# EAGLE library part DDR1X16 (library kmod-testing)
DDR1 x16 Based off a 512Mb part
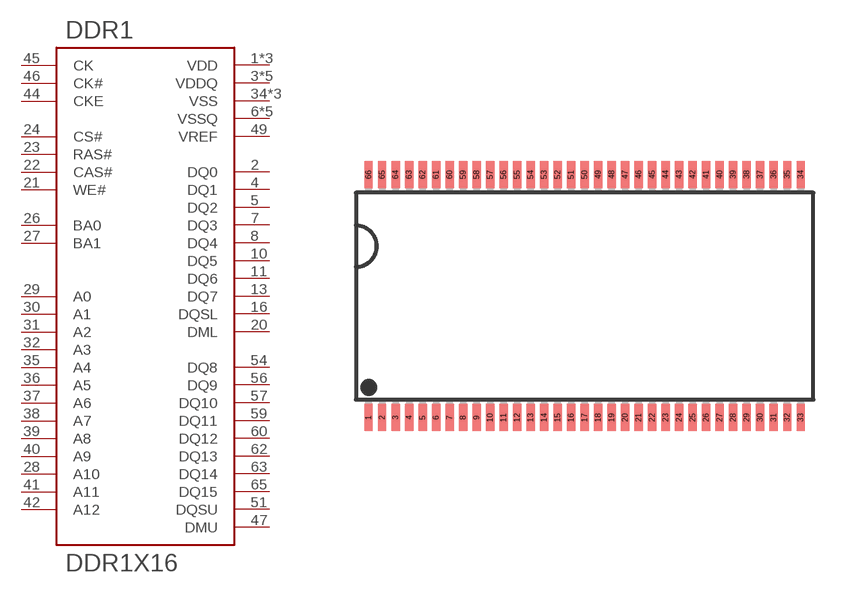
[diagram p8: symbol with the pads of TSOP66-400; footprint TSOP66-400]

Designator prefix DDR1

## DDR1X16  [TSOP66-400]
1  VDD  in
2  DQ0
3  VDDQ  in
4  DQ1
5  DQ2
6  VSSQ  in
7  DQ3
8  DQ4
9  VDDQ  in
10  DQ5
11  DQ6
12  VSSQ  in
13  DQ7
15  VDDQ  in
16  DQSL  in
18  VDD  in
20  DML  in
21  WE#  in
22  CAS#  in
23  RAS#  in
24  CS#  in
26  BA0  in
27  BA1  in
28  A10  in
29  A0  in
30  A1  in
31  A2  in
32  A3  in
33  VDD  in
34  VSS  in
35  A4  in
36  A5  in
37  A6  in
38  A7  in
39  A8  in
40  A9  in
41  A11  in
42  A12  in
44  CKE  in
45  CK  in
46  CK#  in
47  DMU  in
48  VSS  in
49  VREF  in
51  DQSU  in
52  VSSQ  in
54  DQ8
55  VDDQ  in
56  DQ9
57  DQ10
58  VSSQ  in
59  DQ11
60  DQ12
61  VDDQ  in
62  DQ13
63  DQ14
64  VSSQ  in
65  DQ15
66  VSS  in

## Footprint TSOP66-400 (pad centres in mm)
66-Pin Plastic TSOP (400 mil) From memory-micron.lbr; expanded to 66 pins and lengthened pads. Original note: Source: http://download.micron.com/pdf/datasheets/dram/sdram/256MSDRAM.pdf
smd 0.4 x 1.3: 1 -10.4,-5.85; 2 -9.75,-5.85; 3 -9.1,-5.85; 4 -8.45,-5.85; 5 -7.8,-5.85; 6 -7.15,-5.85; 7 -6.5,-5.85; 8 -5.85,-5.85; 9 -5.2,-5.85; 10 -4.55,-5.85; 11 -3.9,-5.85; 12 -3.25,-5.85; 13 -2.6,-5.85; 14 -1.95,-5.85; 15 -1.3,-5.85; 16 -0.65,-5.85; 17 0,-5.85; 18 0.65,-5.85; 19 1.3,-5.85; 20 1.95,-5.85; 21 2.6,-5.85; 22 3.25,-5.85; 23 3.9,-5.85; 24 4.55,-5.85; 25 5.2,-5.85; 26 5.85,-5.85; 27 6.5,-5.85; 28 7.15,-5.85; 29 7.8,-5.85; 30 8.45,-5.85; 31 9.1,-5.85; 32 9.75,-5.85; 33 10.4,-5.85; 34 10.4,5.85; 35 9.75,5.85; 36 9.1,5.85; 37 8.45,5.85; 38 7.8,5.85; 39 7.15,5.85; 40 6.5,5.85; 41 5.85,5.85; 42 5.2,5.85; 43 4.55,5.85; 44 3.9,5.85; 45 3.25,5.85; 46 2.6,5.85; 47 1.95,5.85; 48 1.3,5.85; 49 0.65,5.85; 50 0,5.85; 51 -0.65,5.85; 52 -1.3,5.85; 53 -1.95,5.85; 54 -2.6,5.85; 55 -3.25,5.85; 56 -3.9,5.85; 57 -4.55,5.85; 58 -5.2,5.85; 59 -5.85,5.85; 60 -6.5,5.85; 61 -7.15,5.85; 62 -7.8,5.85; 63 -8.45,5.85; 64 -9.1,5.85; 65 -9.75,5.85; 66 -10.4,5.85